# Altium footprint library 专用C.PcbLib: 104 footprints (part 6 of 7)
Each footprint in its own frame and in the unit in brackets; x right, y up, seen from the top. Pads: shape width x height; smd on the part's side, far side on the other; paste and mask are expansions set on the pad; w line width, h text height; cw(c..) or ccw(c..) is an arc to the next point about the centre after c.
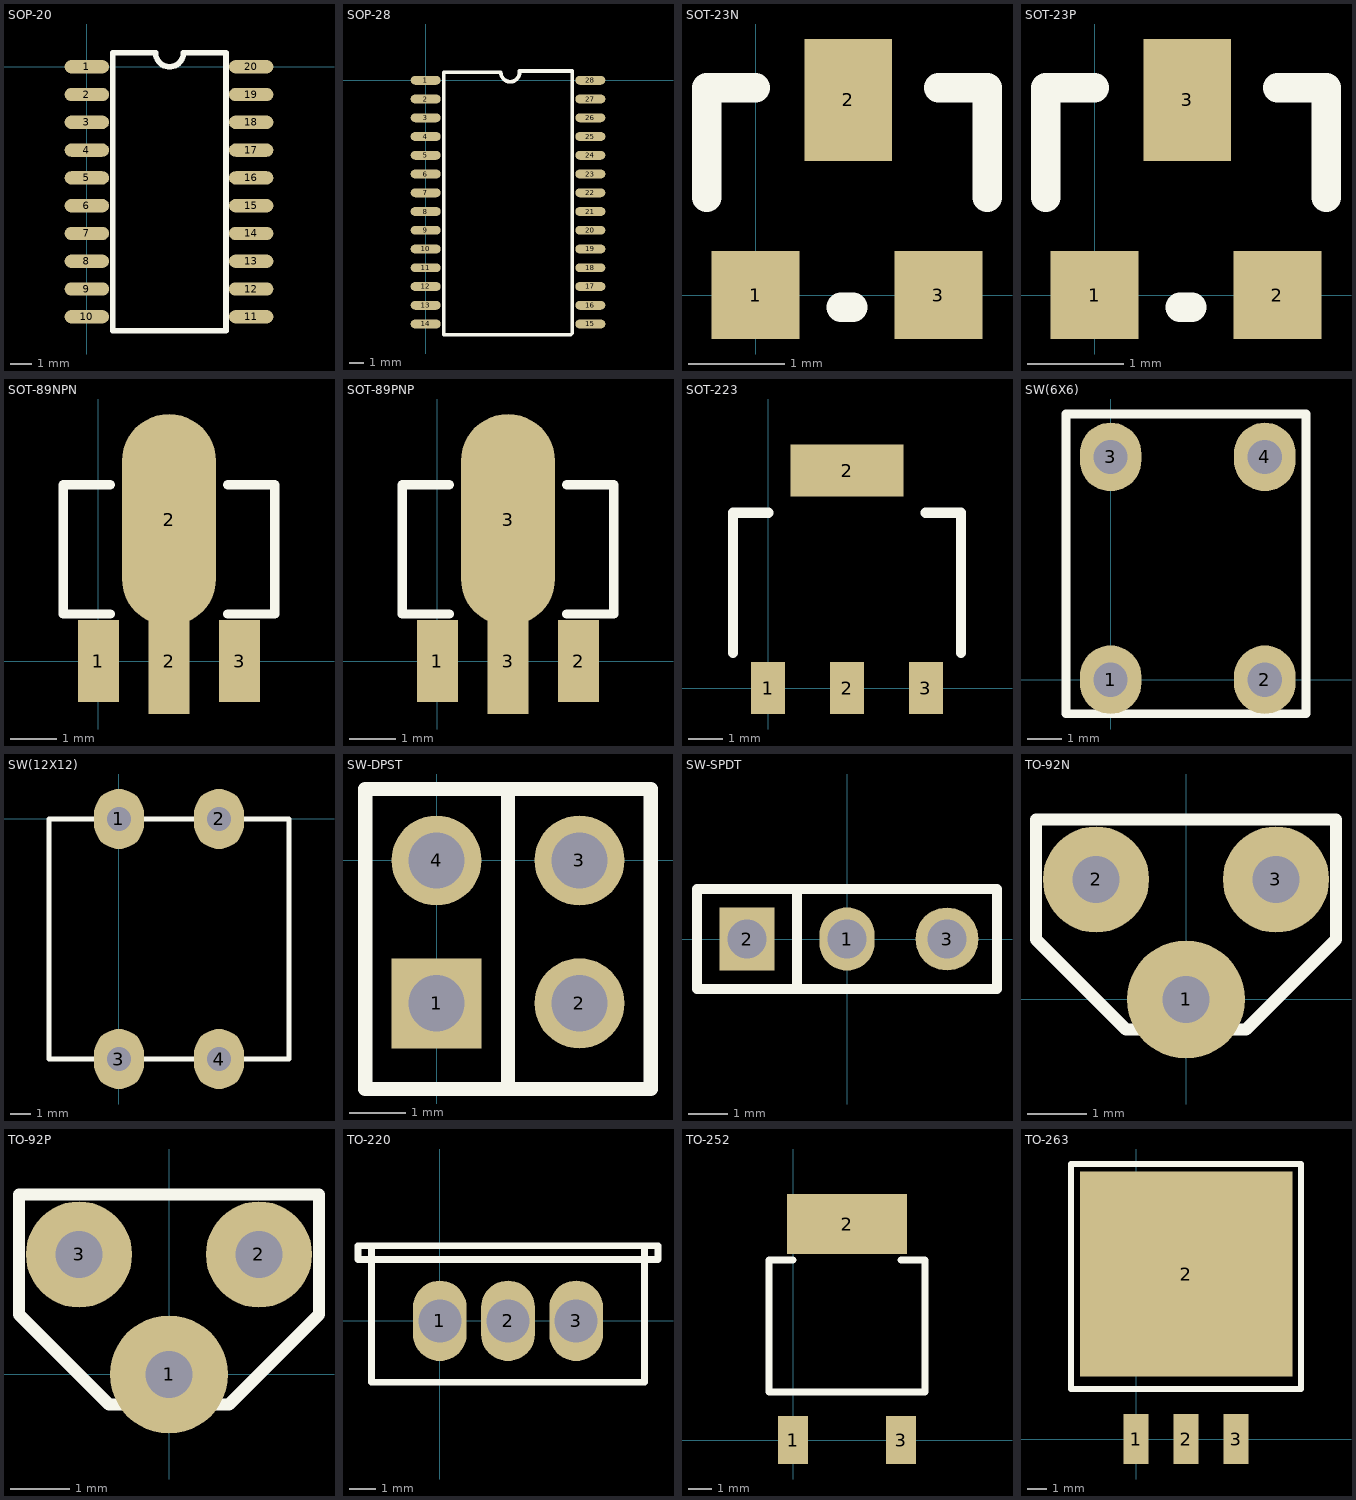
[diagram p5: the footprints below, top view; thin cyan lines are the x and y axes]

## SOP-20 [mil]
pads (20):
  oval 80x24 smd: 1(0,0) 2(0,-50) 3(0,-100) 4(0,-150) 5(0,-200) 6(0,-250) 7(0,-300) 8(0,-350) 9(0,-400) 10(0,-450) 11(295.59,-450) 12(295.59,-400) 13(295.59,-350) 14(295.59,-300) 15(295.59,-250) 16(295.59,-200) 17(295.59,-150) 18(295.59,-100) 19(295.59,-50) 20(295.59,0)
TopOverlay:
  lines w10: 46.22,-475 46.22,25 123.78,25 ccw(c148.78,25) 173.78,25 250.35,25 250.35,-475 46.22,-475

## SOP-28 [mil]
pads (28):
  oval 80x24 smd: 1(0,0) 2(0,-50) 3(0,-100) 4(0,-150) 5(0,-200) 6(0,-250) 7(0,-300) 8(0,-350) 9(0,-400) 10(0,-450) 11(0,-500) 12(0,-550) 13(0,-600) 14(0,-650) 15(439.29,-650) 16(439.29,-600) 17(439.29,-550) 18(439.29,-500) 19(439.29,-450) 20(439.29,-400) 21(439.29,-350) 22(439.29,-300) 23(439.29,-250) 24(439.29,-200) 25(439.29,-150) 26(439.29,-100) 27(439.29,-50) 28(439.29,0)
TopOverlay:
  lines w10: 196.61,21.06 48.19,21.06 48.19,-678.94 387.17,-678.94 ; 200.55,21.06 ccw(c225.55,21.06) 250.55,21.06 ; 250.55,25 391.1,25 391.1,-675

## SOT-23N [mil]
pads (3):
  rect 36x36 smd: 1(0,0) 3(75,0)
  rect 36x50 smd: 2(38,80)
TopOverlay:
  lines w12: -20,40 -20,85 0,85 ; 35,-5 40,-5 ; 75,85 95,85 95,40

## SOT-23P [mil]
pads (3):
  rect 36x36 smd: 1(0,0) 2(75,0)
  rect 36x50 smd: 3(38,80)
TopOverlay:
  lines w12: -20,40 -20,85 0,85 ; 35,-5 40,-5 ; 75,85 95,85 95,40

## SOT-89NPN [mil]
pads (4):
  rect 35x70 smd: 1(0,0) 3(120,0)
  rect 35x90 smd: 2(60,0)
  oval 80x180 smd: 2(60,120)
TopOverlay:
  lines w8: 10,40 -30,40 -30,150 10,150 ; 110,40 150,40 150,150 110,150

## SOT-89PNP [mil]
pads (4):
  rect 35x70 smd: 1(0,0) 2(120,0)
  rect 35x90 smd: 3(60,0)
  oval 80x180 smd: 3(60,120)
TopOverlay:
  lines w8: 10,40 -30,40 -30,150 10,150 ; 110,40 150,40 150,150 110,150

## SOT-223 [mil]
pads (4):
  rect 39x59 smd: 1(0,0) 3(180,0)
  rect 38.98x59.06 smd: 2(90,0)
  rect 129.13x59 smd: 2(90,248.03)
TopOverlay:
  lines w11.81: -40,40 -40,200 0,200 ; 180,200 220,200 220,40

## SW(6X6) [mm]
pads (4):
  oval 1.8x2 hole 1: 1(0,0) 2(4.5,0) 3(0,6.5) 4(4.5,6.5)
TopOverlay:
  lines w0.254: -1.3,-0.996 5.7,-0.996 5.7,7.754 -1.3,7.754 -1.3,-0.996

## SW(12X12) [mm]
pads (4):
  oval 2.5x3 hole 1.2: 1(0,0) 2(5,0) 3(0,-12) 4(5,-12)
TopOverlay:
  lines w0.25: -3.5,-12 -3.5,0 8.5,0 8.5,-12 -3.5,-12

## SW-DPST [mm]
pads (4):
  rect 1.6x1.6 hole 1: 1(0,-2.54)
  round 1.6 hole 1: 2(2.54,-2.54) 3(2.54,0) 4(0,0)
TopOverlay:
  lines w0.254: 1.27,-4.064 1.27,1.27 ; -1.27,-4.064 -1.27,1.27 3.81,1.27 3.81,-4.064 -1.27,-4.064

## SW-SPDT [mm]
pads (3):
  oval 1.4x1.6 hole 1: 1(0,0)
  rect 1.4x1.6 hole 1: 2(-2.54,0)
  round 1.6 hole 1: 3(2.54,0)
TopOverlay:
  lines w0.254: -1.27,-1.27 -1.27,1.27 ; -3.81,-1.27 -3.81,1.27 3.81,1.27 3.81,-1.27 -3.81,-1.27

## TO-92N [mm]
pads (3):
  round 2 hole 0.8: 1(0,0)
  round 1.8 hole 0.8: 2(-1.524,2.032) 3(1.524,2.032)
TopOverlay:
  lines w0.203: -2.54,1.016 -2.54,3.048 2.54,3.048 2.54,1.016 1.016,-0.508 -1.016,-0.508 -2.54,1.016

## TO-92P [mm]
pads (3):
  round 2 hole 0.8: 1(0,0)
  round 1.8 hole 0.8: 2(1.524,2.032) 3(-1.524,2.032)
TopOverlay:
  lines w0.203: -2.54,1.016 -2.54,3.048 2.54,3.048 2.54,1.016 1.016,-0.508 -1.016,-0.508 -2.54,1.016

## TO-220 [mm]
pads (3):
  oval 2x3 hole 1.6: 1(0,0) 2(2.54,0) 3(5.08,0)
TopOverlay:
  lines w0.254: -2.54,2.794 7.62,2.794 ; -2.54,2.794 -2.54,-2.286 7.62,-2.286 7.62,2.794 ; -2.54,2.794 -3.048,2.794 -3.048,2.286 -2.54,2.286 7.62,2.286 8.128,2.286 8.128,2.794 7.62,2.794

## TO-252 [mil]
pads (3):
  rect 50x80 smd: 1(0,0) 3(180,0)
  rect 200x100 smd: 2(90,360)
TopOverlay:
  lines w11.81: -40,80 -40,300 0,300 ; 180,300 220,300 220,80
  lines w12: -40,80 220,80

## TO-263 [mil]
pads (4):
  rect 50x100 smd: 1(0,0) 2(100,0) 3(200,0)
  rect 425x410 smd: 2(100,330)
TopOverlay:
  lines w11.81: -130,100 330,100 330,550 -130,550 -130,100